# Altium footprint library Header.PcbLib: 38 footprints (part 1 of 3)
Each footprint in its own frame and in the unit in brackets; x right, y up, seen from the top. Pads: shape width x height; smd on the part's side, far side on the other; paste and mask are expansions set on the pad; w line width, h text height; cw(c..) or ccw(c..) is an arc to the next point about the centre after c.
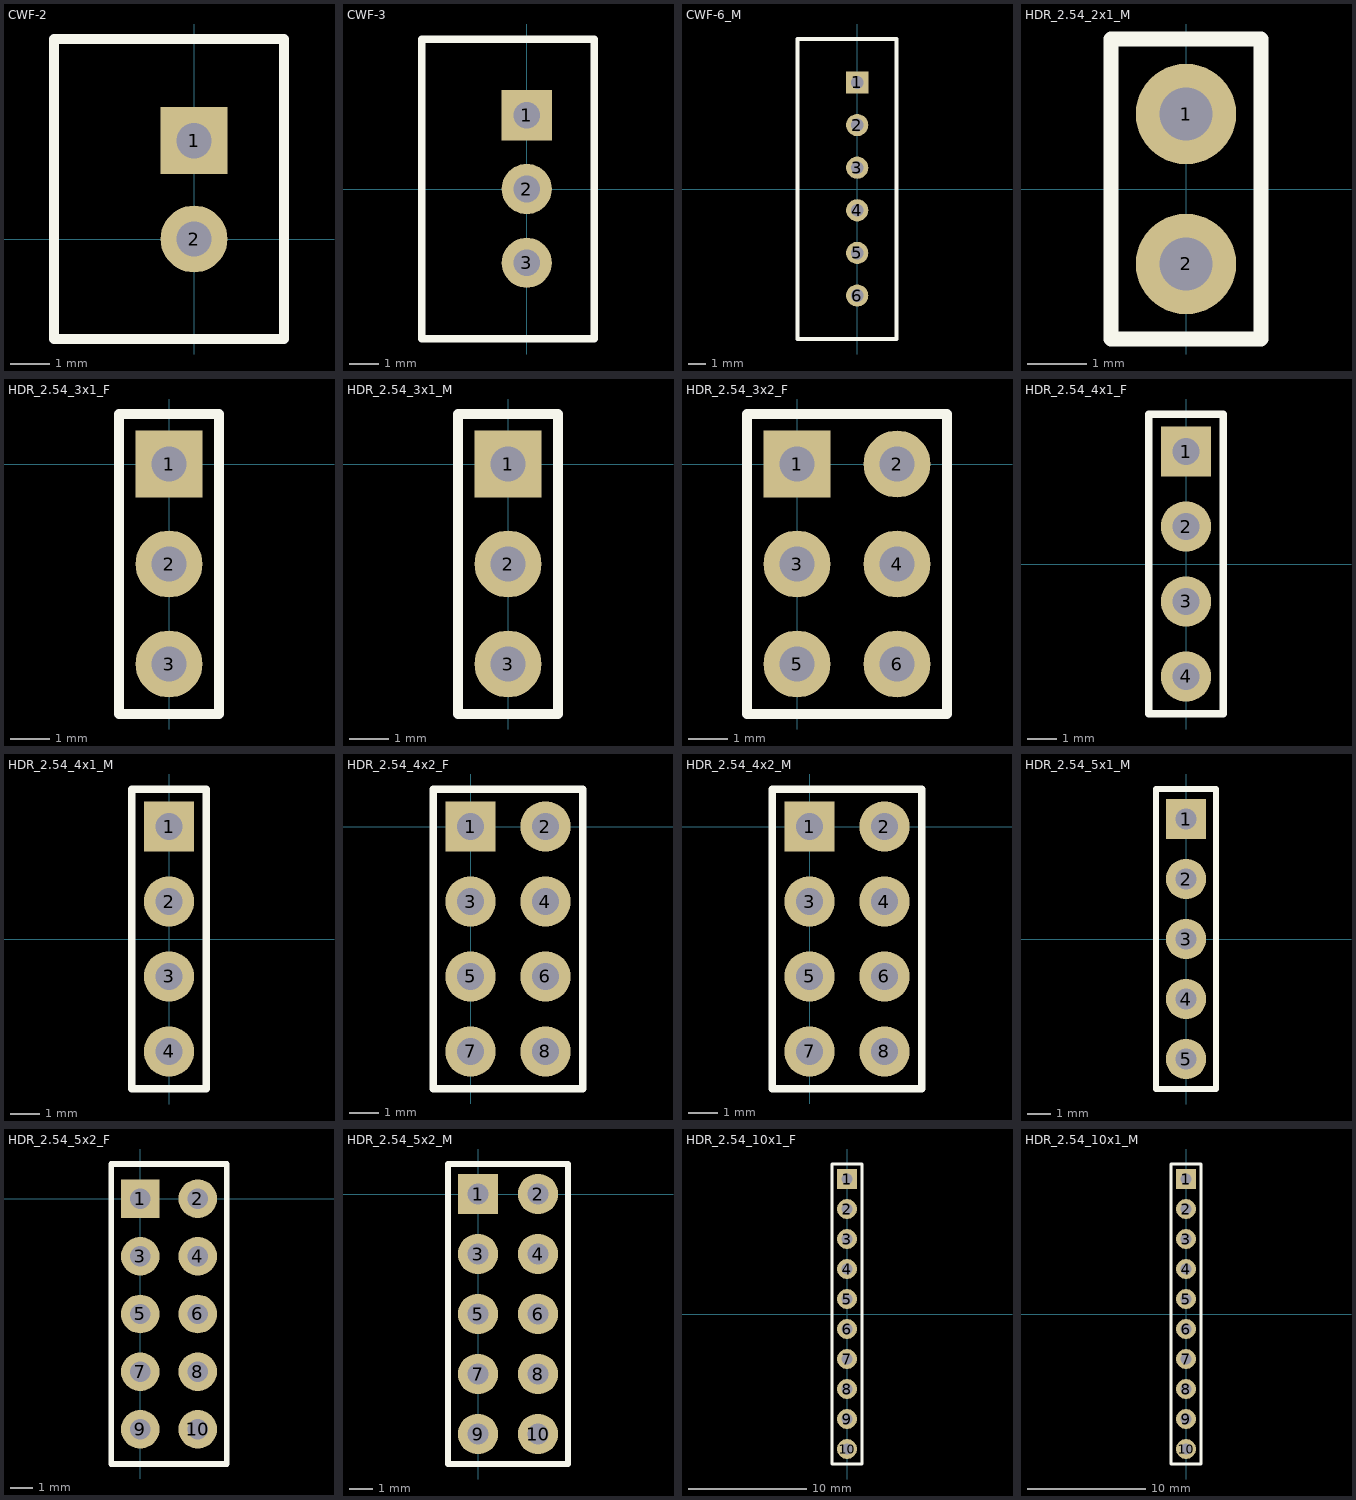
[diagram p0: the footprints below, top view; thin cyan lines are the x and y axes]

## CWF-2 [mm]
height 5
pads (2):
  rect 1.7x1.7 hole 0.9: 1(0,2.5)
  round 1.7 hole 0.9: 2(0,0)
Top Overlay:
  lines w0.254: -3.556,-2.54 2.286,-2.54 2.286,5.08 -3.556,5.08 -3.556,-2.54
3D body "CWF-2.step": height 7, standoff -3.5, extent -3.55,-2.484 2.2,5.016

## CWF-3 [mm]
height 5
pads (3):
  rect 1.7x1.7 hole 0.9: 1(0,2.5)
  round 1.7 hole 0.9: 2(0,0) 3(0,-2.5)
Top Overlay:
  lines w0.254: -3.556,-5.08 2.286,-5.08 2.286,5.08 -3.556,5.08 -3.556,-5.08
3D body "CWF-3.step": height 7, standoff -3.5, extent -3.575,-5 2.175,5

## CWF-6_M [mm]
pads (6):
  rect 1.3x1.3 hole 0.75: 1(0,6.25)
  round 1.3 hole 0.75: 2(0,3.75) 3(0,1.25) 4(0,-1.25) 5(0,-3.75) 6(0,-6.25)
Top Overlay:
  lines w0.254: -3.5,-8.8 -3.5,8.8 2.3,8.8 2.3,-8.8 -3.5,-8.8
3D body "CWF-6M.step": height 7, standoff -3.5, extent -3.5,-8.75 2.25,8.75

## HDR_2.54_2x1_M [mm]
height 5
pads (2):
  round 1.7 hole 0.9: 1(0,1.27) 2(0,-1.27)
Top Overlay:
  lines w0.254: -1.27,-2.54 -1.27,2.54 1.27,2.54 1.27,-2.54 -1.27,-2.54
3D body "PLS-2_2.54.STEP": height 8.54, standoff -3, extent -1.27,-2.54 1.27,2.54

## HDR_2.54_3x1_F [mm]
height 5
pads (3):
  rect 1.7x1.7 hole 0.9: 1(0,0)
  round 1.7 hole 0.9: 2(0,-2.54) 3(0,-5.08)
Top Overlay:
  lines w0.254: -1.27,-6.35 -1.27,1.27 1.27,1.27 1.27,-6.35 -1.27,-6.35
3D body "Header 3X1 female.step": height 8.4, standoff -3.15, extent -1.27,-6.35 1.23,1.27

## HDR_2.54_3x1_M [mm]
height 5
pads (3):
  rect 1.7x1.7 hole 0.9: 1(0,0)
  round 1.7 hole 0.9: 2(0,-2.54) 3(0,-5.08)
Top Overlay:
  lines w0.254: -1.27,-6.35 -1.27,1.27 1.27,1.27 1.27,-6.35 -1.27,-6.35
3D body "Header 3X1 male.step": height 9.5, standoff -3.2, extent -1.27,-6.35 1.27,1.27

## HDR_2.54_3x2_F [mm]
height 5
pads (6):
  rect 1.7x1.7 hole 0.9: 1(0,0)
  round 1.7 hole 0.9: 2(2.54,0) 3(0,-2.54) 4(2.54,-2.54) 5(0,-5.08) 6(2.54,-5.08)
Top Overlay:
  lines w0.254: -1.27,-6.35 -1.27,1.27 3.81,1.27 3.81,-6.35 -1.27,-6.35
3D body "Header 3X1 female.step": height 8.4, standoff -3.15, extent -1.23,-6.35 1.27,1.27
3D body "Header 3X1 female.step": height 8.4, standoff -3.15, extent 1.27,-6.35 3.77,1.27

## HDR_2.54_4x1_F [mm]
height 5
pads (4):
  rect 1.7x1.7 hole 0.9: 1(0,3.81)
  round 1.7 hole 0.9: 2(0,1.27) 3(0,-1.27) 4(0,-3.81)
Top Overlay:
  lines w0.254: -1.27,-5.08 1.27,-5.08 1.27,5.08 -1.27,5.08 -1.27,-5.08
3D body "Header 4X1 female.step": height 8.4, standoff -3.15, extent -1.25,-5.08 1.25,5.08

## HDR_2.54_4x1_M [mm]
height 5
pads (4):
  rect 1.7x1.7 hole 0.9: 1(0,3.81)
  round 1.7 hole 0.9: 2(0,1.27) 3(0,-1.27) 4(0,-3.81)
Top Overlay:
  lines w0.254: -1.27,-5.08 -1.27,5.08 1.27,5.08 1.27,-5.08 -1.27,-5.08
3D body "Header 4X1 male.STEP": height 8.54, standoff -3, extent -1.245,-5.08 1.245,5.08

## HDR_2.54_4x2_F [mm]
height 5
pads (8):
  rect 1.7x1.7 hole 0.9: 1(0,0)
  round 1.7 hole 0.9: 2(2.54,0) 3(0,-2.54) 4(2.54,-2.54) 5(0,-5.08) 6(2.54,-5.08) 7(0,-7.62) 8(2.54,-7.62)
Top Overlay:
  lines w0.254: -1.27,-8.89 -1.27,1.27 3.81,1.27 3.81,-8.89 -1.27,-8.89
3D body "Header 4X2 female.STEP.step": height 4.5, standoff -3.15, extent -1.27,-8.89 3.81,1.27

## HDR_2.54_4x2_M [mm]
height 5
pads (8):
  rect 1.7x1.7 hole 0.9: 1(0,0)
  round 1.7 hole 0.9: 2(2.54,0) 3(0,-2.54) 4(2.54,-2.54) 5(0,-5.08) 6(2.54,-5.08) 7(0,-7.62) 8(2.54,-7.62)
Top Overlay:
  lines w0.254: -1.27,-8.89 -1.27,1.27 3.81,1.27 3.81,-8.89 -1.27,-8.89
3D body "Header 4X2 male.STEP": height 8.84, standoff -2.7, extent -1.22,-8.89 3.76,1.27

## HDR_2.54_5x1_M [mm]
height 5
pads (5):
  rect 1.7x1.7 hole 0.9: 1(0,5.08)
  round 1.7 hole 0.9: 2(0,2.54) 3(0,0) 4(0,-2.54) 5(0,-5.08)
Top Overlay:
  lines w0.254: -1.27,-6.35 -1.27,6.35 1.27,6.35 1.27,-6.35 -1.27,-6.35
3D body "PLS-5_2.54.step": height 8.54, standoff -3, extent -1.27,-6.35 1.27,6.35

## HDR_2.54_5x2_F [mm]
height 5
pads (10):
  rect 1.7x1.7 hole 0.9: 1(0,0)
  round 1.7 hole 0.9: 2(2.54,0) 3(0,-2.54) 4(2.54,-2.54) 5(0,-5.08) 6(2.54,-5.08) 7(0,-7.62) 8(2.54,-7.62) 9(0,-10.16) 10(2.54,-10.16)
Top Overlay:
  lines w0.254: -1.27,-11.684 3.81,-11.684 3.81,1.524 -1.27,1.524 -1.27,-11.684
3D body "Header 5X2 female.STEP": height 9.23, standoff -2.47, extent -1.27,-11.68 3.81,1.52

## HDR_2.54_5x2_M [mm]
height 5
pads (10):
  rect 1.7x1.7 hole 0.9: 1(0,0)
  round 1.7 hole 0.9: 2(2.54,0) 3(0,-2.54) 4(2.54,-2.54) 5(0,-5.08) 6(2.54,-5.08) 7(0,-7.62) 8(2.54,-7.62) 9(0,-10.16) 10(2.54,-10.16)
Top Overlay:
  lines w0.254: -1.27,-11.43 3.81,-11.43 3.81,1.27 -1.27,1.27 -1.27,-11.43
3D body "Header 5X2 male.STEP.step": height 8.38, standoff -2.54, extent -1.27,-11.43 3.81,1.27

## HDR_2.54_10x1_F [mm]
height 5
pads (10):
  rect 1.7x1.7 hole 0.9: 1(0,11.43)
  round 1.7 hole 0.9: 2(0,8.89) 3(0,6.35) 4(0,3.81) 5(0,1.27) 6(0,-1.27) 7(0,-3.81) 8(0,-6.35) 9(0,-8.89) 10(0,-11.43)
Top Overlay:
  lines w0.254: -1.27,-12.7 -1.27,12.7 1.27,12.7 1.27,-12.7 -1.27,-12.7
3D body "PBS-10.step": height 8.41, standoff -3.19, extent -1.27,-12.7 1.27,12.7

## HDR_2.54_10x1_M [mm]
height 5
pads (10):
  rect 1.7x1.7 hole 0.9: 1(0,11.43)
  round 1.7 hole 0.9: 2(0,8.89) 3(0,6.35) 4(0,3.81) 5(0,1.27) 6(0,-1.27) 7(0,-3.81) 8(0,-6.35) 9(0,-8.89) 10(0,-11.43)
Top Overlay:
  lines w0.254: -1.27,-12.7 -1.27,12.7 1.27,12.7 1.27,-12.7 -1.27,-12.7
3D body "PLS-10.step": height 8.55, standoff -2.99, extent -1.27,-12.7 1.27,12.7